# Altium schematic symbol library M20-7820446.SchLib: 2 symbols
Pins are listed as number, name and electrical type; pins without a type are passive.

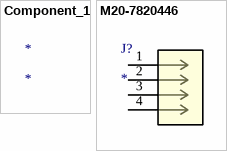
[diagram p0: symbols Component_1 to M20-7820446]

## Component_1
designator *

## M20-7820446
designator J?
No Description Available; Mfr_Name: Harwin; RefDes: RefDes; Type: Type
footprint CONN4_M20-7820446_HRW
pins: 1, 2, 3, 4